# Altium schematic symbol library UPCNSL_ABS_EPS_POL.SchLib: 12 symbols
Pins are listed as number, name and electrical type; pins without a type are passive.

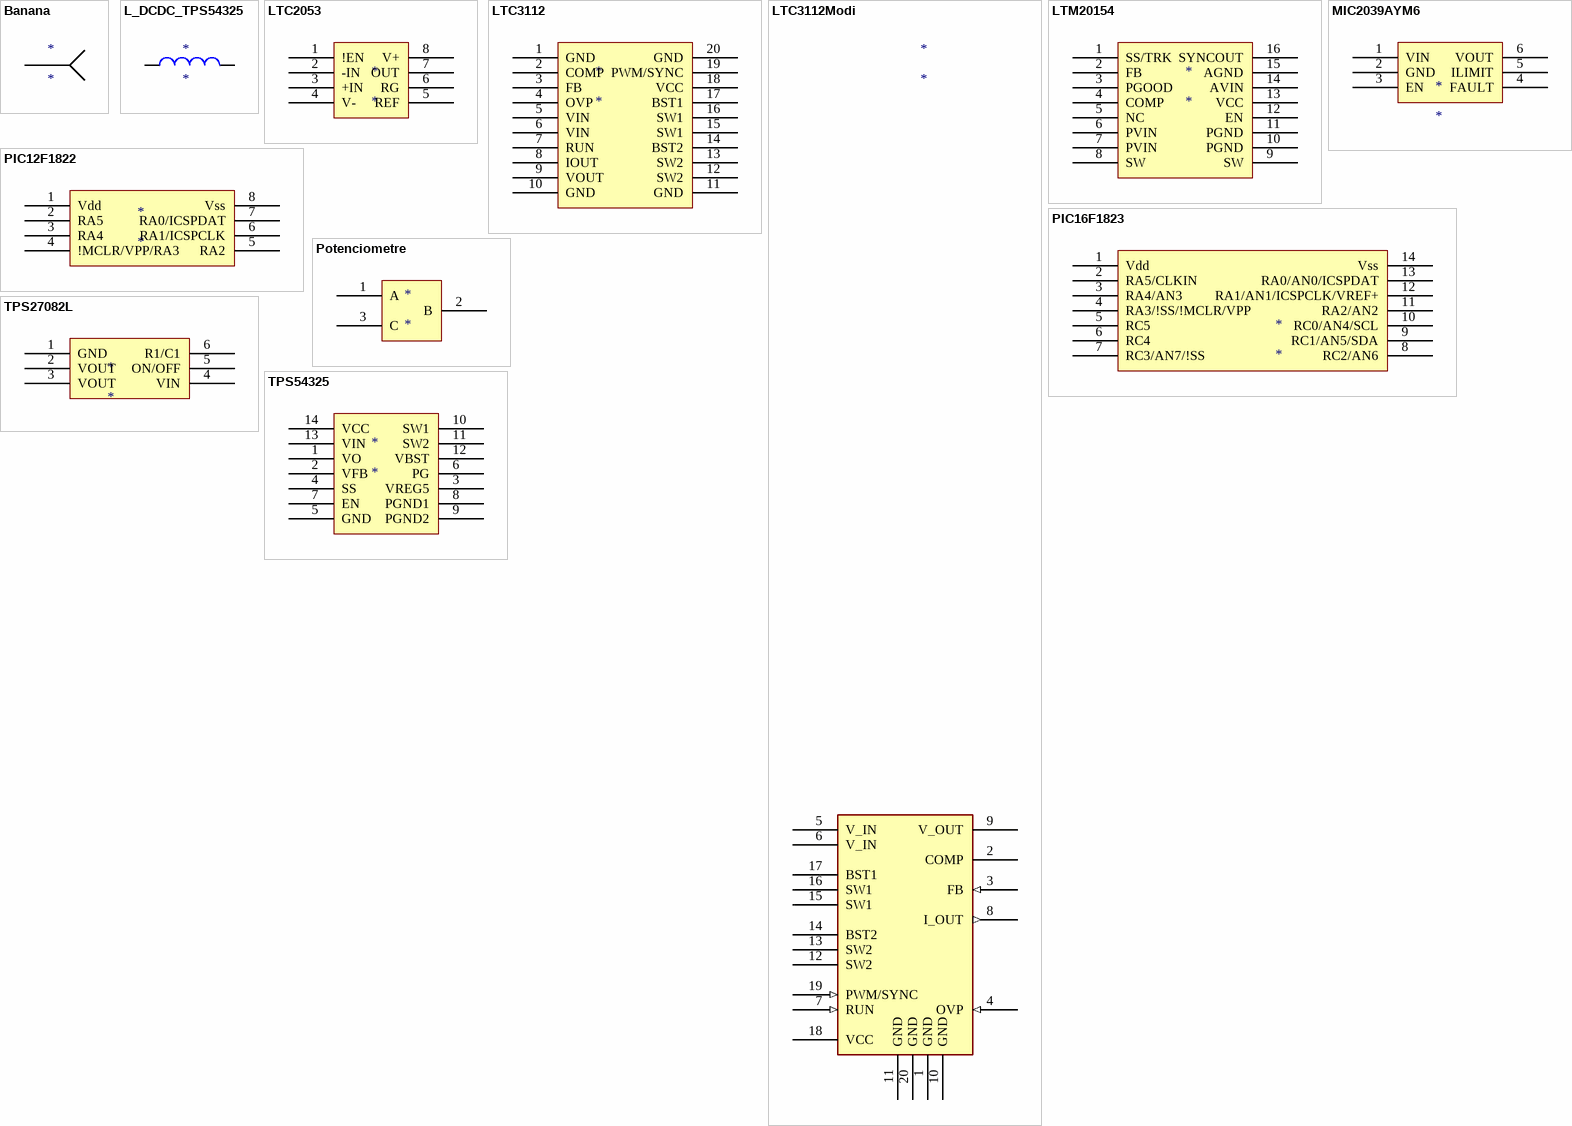
[diagram p0: symbols Banana to TPS54325]

## Banana
designator *
footprint Banana
pins: 1

## L_DCDC_TPS54325
designator *
footprint L_DCDC_TPS54325_v2
pins: 1, 2

## LTC2053
designator *
footprint LTC2053 IPC (TSOP, 8-Leads, Body 3,00x3,00mm, Pitch 0,65mm, IPC Medium Density)
pins: 1 !EN, 2 -IN, 3 +IN, 4 V- (power), 5 REF, 6 RG, 7 OUT, 8 V+ (power)

## LTC3112
designator *
footprint LTC3112
pins: 1 GND (power), 2 COMP, 3 FB, 4 OVP, 5 VIN (power), 6 VIN (power), 7 RUN (power), 8 IOUT, 9 VOUT (power), 10 GND (power), 11 GND (power), 12 SW2, 13 SW2, 14 BST2, 15 SW1, 16 SW1, 17 BST1, 18 VCC (power), 19 PWM/SYNC, 20 GND (power)

## LTC3112Modi
designator *
footprint LTC3112TSOP
pins: 1 GND, 2 COMP, 3 FB (in), 4 OVP (in), 5 V_IN, 6 V_IN, 7 RUN (in), 8 I_OUT (out), 9 V_OUT, 10 GND, 11 GND, 12 SW2, 13 SW2, 14 BST2, 15 SW1, 16 SW1, 17 BST1, 18 VCC, 19 PWM/SYNC (in), 20 GND

## LTM20154
designator *
pins: 1 SS/TRK, 2 FB, 3 PGOOD, 4 COMP, 5 NC, 6 PVIN, 7 PVIN, 8 SW, 9 SW, 10 PGND, 11 PGND, 12 EN, 13 VCC, 14 AVIN, 15 AGND, 16 SYNCOUT

## MIC2039AYM6
designator *
footprint MIC2039AYM6 (SOT23, 6-Leads, Body 2,90x2,80mm, Pitch 0,95mm, IPC Medium Density)
pins: 1 VIN (power), 2 GND (power), 3 EN, 4 FAULT, 5 ILIMIT, 6 VOUT (power)

## PIC12F1822
designator *
footprint PIC12F1822
pins: 1 Vdd (power), 2 RA5, 3 RA4, 4 !MCLR/VPP/RA3, 5 RA2, 6 RA1/ICSPCLK, 7 RA0/ICSPDAT, 8 Vss (power)

## PIC16F1823
designator *
footprint PIC16F1823 (SOIC, 14-Leads, Body 8,65x3,90mm, Pitch 1,27mm, IPC Medium Density)
pins: 1 Vdd (power), 2 RA5/CLKIN, 3 RA4/AN3, 4 RA3/!SS/!MCLR/VPP, 5 RC5, 6 RC4, 7 RC3/AN7/!SS, 8 RC2/AN6, 9 RC1/AN5/SDA, 10 RC0/AN4/SCL, 11 RA2/AN2, 12 RA1/AN1/ICSPCLK/VREF+, 13 RA0/AN0/ICSPDAT, 14 Vss (power)

## Potenciometre
designator *
footprint Potenciometre no recte
pins: 1 A, 2 B, 3 C

## TPS27082L
designator *
footprint TPS27082L
pins: 1 GND (power), 2 VOUT (power), 3 VOUT (power), 4 VIN (power), 5 ON/OFF, 6 R1/C1

## TPS54325
designator *
footprint TPS54325
pins: 1 VO, 2 VFB, 3 VREG5, 4 SS, 5 GND, 6 PG, 7 EN, 8 PGND1, 9 PGND2, 10 SW1, 11 SW2, 12 VBST, 13 VIN, 14 VCC